# Altium footprint library LPF_SMD_FV1206.PcbLib: 1 footprints
Each footprint in its own frame and in the unit in brackets; x right, y up, seen from the top. Pads: shape width x height; smd on the part's side, far side on the other; paste and mask are expansions set on the pad; w line width, h text height; cw(c..) or ccw(c..) is an arc to the next point about the centre after c.
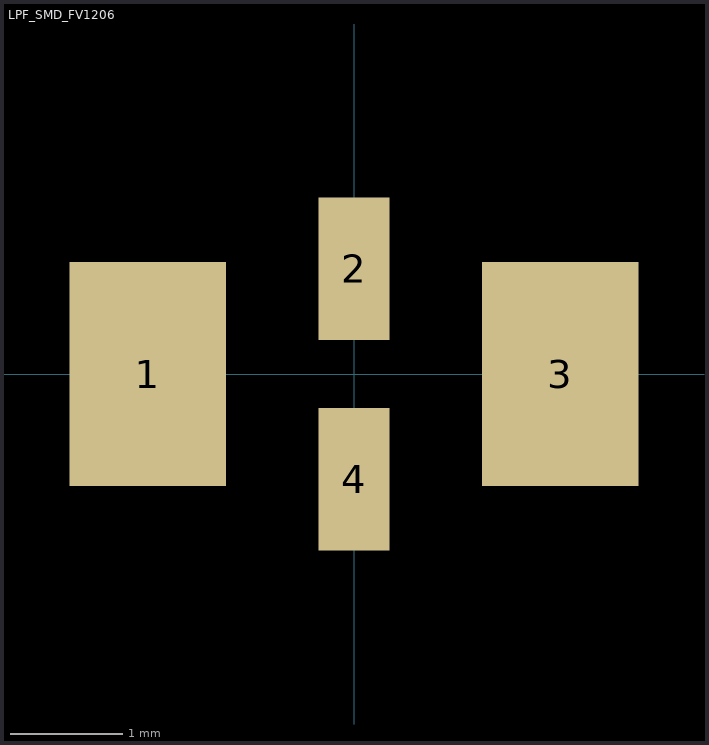
[diagram p0: the footprint, top view; thin cyan lines are the x and y axes]

## LPF_SMD_FV1206 [mil]
pads (4):
  rect 55x78.74 smd: 1(-72.5,0) 3(72.5,0)
  rect 25x50 smd: 2(0,37) 4(0,-37)